# Altium schematic symbol library Module.SchLib: 8 symbols
Pins are listed as number, name and electrical type; pins without a type are passive.

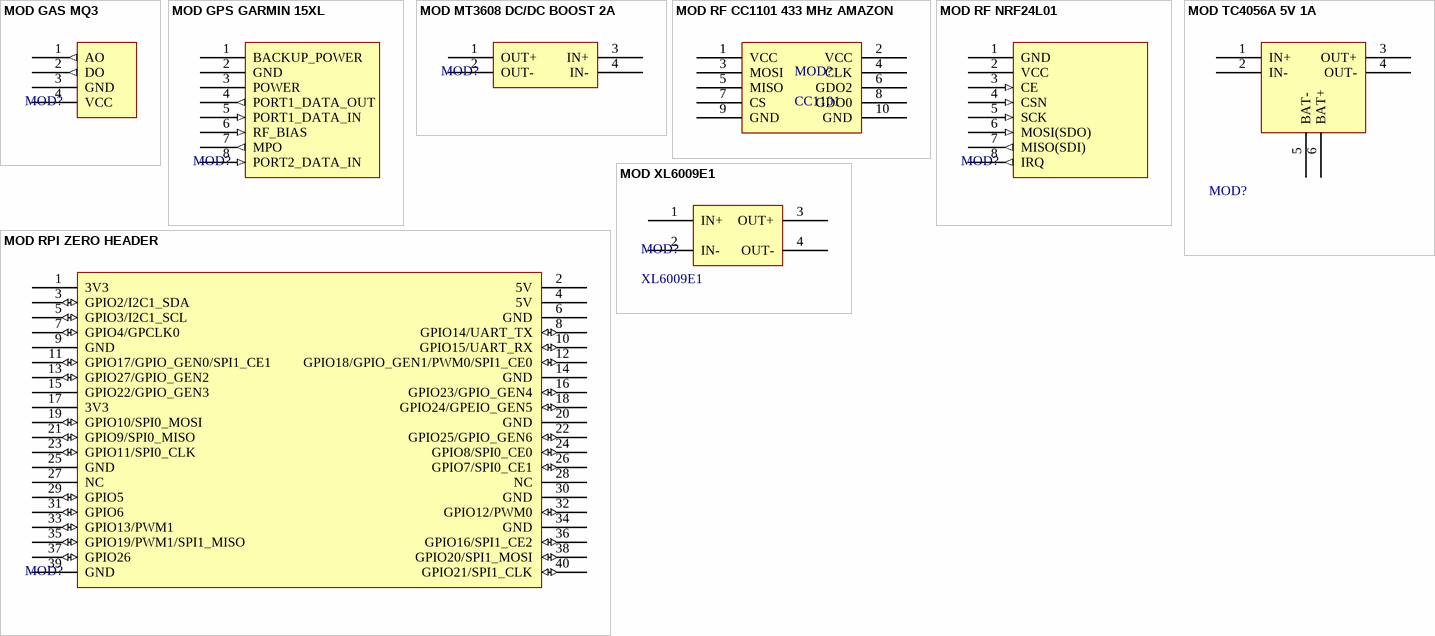
[diagram p0: symbols MOD GAS MQ3 to MOD XL6009E1]

## MOD GAS MQ3
designator MOD?
footprint THT MOD MQ3
pins: 1 AO (out), 2 DO (out), 3 GND (power), 4 VCC (power)

## MOD GPS GARMIN 15XL
designator MOD?
footprint THT MOD GPS GARMIN 15XH/15XL
pins: 1 BACKUP_POWER, 2 GND (power), 3 POWER (power), 4 PORT1_DATA_OUT (out), 5 PORT1_DATA_IN (in), 6 RF_BIAS (in), 7 MPO (out), 8 PORT2_DATA_IN (in)

## MOD MT3608 DC/DC BOOST 2A
designator MOD?
footprint THT MOD MT3608 DC/DC BOOST CONV 2A
pins: 1 OUT+, 2 OUT-, 3 IN+, 4 IN-

## MOD RF CC1101 433 MHz AMAZON
designator MOD?, comment CC1101
footprint THT MOD CC1101 433 MHz AMAZON
pins: 1 VCC, 2 VCC, 3 MOSI, 4 CLK, 5 MISO, 6 GDO2, 7 CS, 8 GDO0, 9 GND, 10 GND

## MOD RF NRF24L01
designator MOD?
footprint THT MOD NRF24L01
pins: 1 GND (power), 2 VCC (power), 3 CE (in), 4 CSN (in), 5 SCK (in), 6 MOSI(SDO) (in), 7 MISO(SDI) (out), 8 IRQ (out)

## MOD RPI ZERO HEADER
designator MOD?
footprint THT CON 40-PIN 2.54 RAW
pins: 1 3V3 (power), 2 5V (power), 3 GPIO2/I2C1_SDA (io), 4 5V, 5 GPIO3/I2C1_SCL (io), 6 GND (power), 7 GPIO4/GPCLK0 (io), 8 GPIO14/UART_TX (io), 9 GND (power), 10 GPIO15/UART_RX (io), 11 GPIO17/GPIO_GEN0/SPI1_CE1 (io), 12 GPIO18/GPIO_GEN1/PWM0/SPI1_CE0 (io), 13 GPIO27/GPIO_GEN2 (io), 14 GND (power), 15 GPIO22/GPIO_GEN3, 16 GPIO23/GPIO_GEN4 (io), 17 3V3 (power), 18 GPIO24/GPEIO_GEN5 (io), 19 GPIO10/SPI0_MOSI (io), 20 GND (power), 21 GPIO9/SPI0_MISO (io), 22 GPIO25/GPIO_GEN6 (io), 23 GPIO11/SPI0_CLK (io), 24 GPIO8/SPI0_CE0 (io), 25 GND (power), 26 GPIO7/SPI0_CE1 (io), 27 NC, 28 NC, 29 GPIO5 (io), 30 GND (power), 31 GPIO6 (io), 32 GPIO12/PWM0 (io), 33 GPIO13/PWM1 (io), 34 GND (power), 35 GPIO19/PWM1/SPI1_MISO (io), 36 GPIO16/SPI1_CE2 (io), 37 GPIO26 (io), 38 GPIO20/SPI1_MOSI (io), 39 GND (power), 40 GPIO21/SPI1_CLK (io)

## MOD TC4056A 5V 1A
designator MOD?
footprint THT MOD TC4056A 5V 1A
pins: 1 IN+ (power), 2 IN- (power), 3 OUT+ (power), 4 OUT- (power), 5 BAT-, 6 BAT+

## MOD XL6009E1
designator MOD?, comment XL6009E1
footprint THT MOD XL6009E1
pins: 1 IN+ (power), 2 IN- (power), 3 OUT+ (power), 4 OUT- (power)